# Altium schematic symbol library ColdBlocks.SchLib: 2 symbols
Pins are listed as number, name and electrical type; pins without a type are passive.

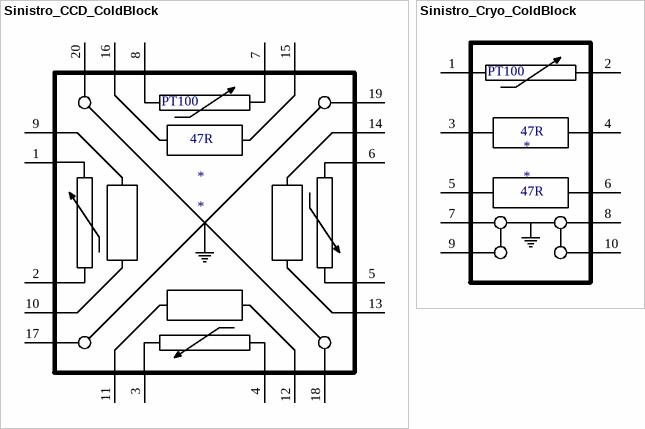
[diagram p0: symbols Sinistro_CCD_ColdBlock to Sinistro_Cryo_ColdBlock]

## Sinistro_CCD_ColdBlock
designator *
pins: 1 RTD1_1, 2 RTD1_2, 3 RTD2_1, 4 RTD2_2, 5 RTD3_1, 6 RTD3_2, 7 RTD4_1, 8 RTD4_2, 9 H1_1, 10 H1_2, 11 H2_1, 12 H2_2, 13 H3_1, 14 H3_2, 15 H4_1, 16 H4_2, 17 GND1, 18 GND2, 19 GND3, 20 GND4
text: PT100; 47R

## Sinistro_Cryo_ColdBlock
designator *
pins: 1 RTD_1, 2 RTD_2, 3 H1_1, 4 H1_2, 5 H2_1, 6 H2_2, 7 GND_1, 8 GND_2, 9 GND_3, 10 GND_4
text: PT100; 47R